# EAGLE library part 12B-PASS-(*) (library tm-JST-PA)
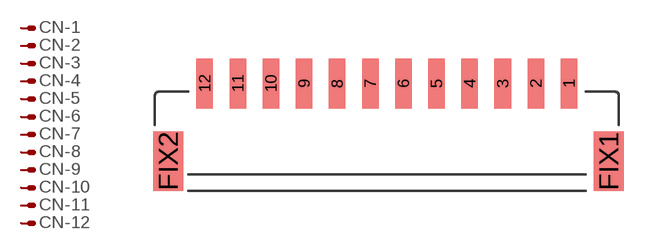
[diagram p0: symbol with the pads of 12B-PASS-(*); footprint 12B-PASS-(*)]

Designator prefix CN; gates -1=PIN -2=PIN -3=PIN -4=PIN -5=PIN -6=PIN -7=PIN -8=PIN -9=PIN -10=PIN -11=PIN -12=PIN

## 12B-PASS-()  [12B-PASS-(*)]
1  -1:-
2  -2:-
3  -3:-
4  -4:-
5  -5:-
6  -6:-
7  -7:-
8  -8:-
9  -9:-
10  -10:-
11  -11:-
12  -12:-

## Footprint 12B-PASS-(*) (pad centres in mm)
JST PA CONNECTOR SMT Top Entry type 12 pin 12B-PASS-(*) (without boss)
smd 1 x 3: 1 11,1.5; 2 9,1.5; 3 7,1.5; 4 5,1.5; 5 3,1.5; 6 1,1.5; 7 -1,1.5; 8 -3,1.5; 9 -5,1.5; 10 -7,1.5; 11 -9,1.5; 12 -11,1.5
smd 1.8 x 3.6: FIX1 13.4,-3.2; FIX2 -13.2,-3.2